# Altium integrated library buttons.IntLib: 1 symbol
Pins are listed as number, name and electrical type; pins without a type are passive.

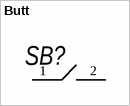
[diagram p0: symbol Butt]

## Butt
designator SB?  (value not drawn)
footprint B3U1000P (Кнопка тактильная 3.2х2.5х1.2мм вертикальная, тип контактов SPST-NO, SMD монтаж)
pins: 1 (oc) "Информационный вход Х6", 2 (oc) "Информационный вход Х6"